# Altium integrated library NSC Discrete Diode.IntLib: 19 symbols
Pins are listed as number, name and electrical type; pins without a type are passive.

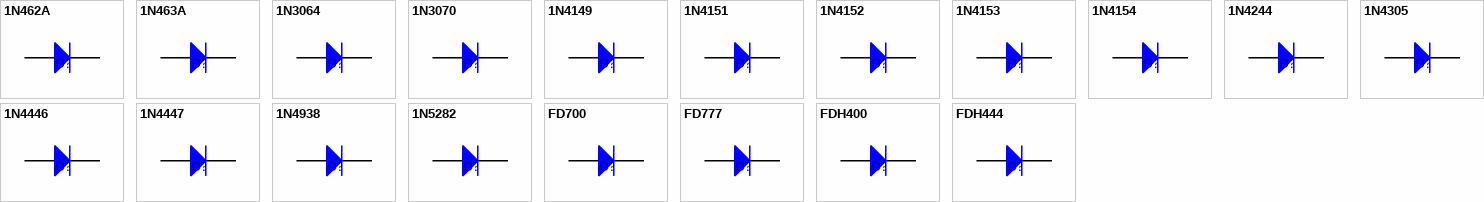
[diagram p0: symbols 1N462A to FDH444]

## 1N462A
designator D?
General Purpose Diode; PackageDocument: 1989; Published: 8-Jun-2000; LatestRevisionDate: 17-Jul-2002; LatestRevisionNote: Re-released for DXP Platform.; DatasheetDocument: 1989; PackageReference: DO-35; Publisher: Altium Limited; Code_JEDEC: DO-204-AH; ComponentLink1Description: Manufacturer Link; ComponentLink1URL: http://www.national.com/
footprint DO-35 (Diode, Axial; Body 4.6 x 1.9 mm (LxDia. max), Lead Dia. 0.53 mm (max))
simulation model 1N462A (DIODE)
signal-integrity model 1N462A
pins: 1 A, 2 K

## 1N463A
designator D?
General Purpose Diode; PackageDocument: 1989; Published: 8-Jun-2000; LatestRevisionDate: 17-Jul-2002; LatestRevisionNote: Re-released for DXP Platform.; DatasheetDocument: 1989; PackageReference: DO-35; Publisher: Altium Limited; Code_JEDEC: DO-204-AH; ComponentLink1Description: Manufacturer Link; ComponentLink1URL: http://www.national.com/
footprint DO-35 (Diode, Axial; Body 4.6 x 1.9 mm (LxDia. max), Lead Dia. 0.53 mm (max))
simulation model 1N463A (DIODE)
signal-integrity model 1N463A
pins: 1 A, 2 K

## 1N3064
designator D?
Computer Diode; PackageDocument: 1989; Published: 8-Jun-2000; LatestRevisionDate: 17-Jul-2002; LatestRevisionNote: Re-released for DXP Platform.; DatasheetDocument: 1989; PackageReference: DO-35; Publisher: Altium Limited; Code_JEDEC: DO-204-AH; ComponentLink1Description: Manufacturer Link; ComponentLink1URL: http://www.national.com/
footprint DO-35 (Diode, Axial; Body 4.6 x 1.9 mm (LxDia. max), Lead Dia. 0.53 mm (max))
simulation model 1N3064 (DIODE)
signal-integrity model 1N3064
pins: 1 A, 2 K

## 1N3070
designator D?
High Voltage Diode; PackageDocument: 1989; Published: 8-Jun-2000; LatestRevisionDate: 17-Jul-2002; LatestRevisionNote: Re-released for DXP Platform.; DatasheetDocument: 1989; PackageReference: DO-35; Publisher: Altium Limited; Code_JEDEC: DO-204-AH; ComponentLink1Description: Manufacturer Link; ComponentLink1URL: http://www.national.com/
footprint DO-35 (Diode, Axial; Body 4.6 x 1.9 mm (LxDia. max), Lead Dia. 0.53 mm (max))
simulation model 1N3070 (DIODE)
signal-integrity model 1N3070
pins: 1 A, 2 K

## 1N4149
designator D?
Computer Diode; PackageDocument: 1989; Published: 8-Jun-2000; LatestRevisionDate: 17-Jul-2002; LatestRevisionNote: Re-released for DXP Platform.; DatasheetDocument: 1989; PackageReference: DO-35; Publisher: Altium Limited; Code_JEDEC: DO-204-AH; ComponentLink1Description: Manufacturer Link; ComponentLink1URL: http://www.national.com/
footprint DO-35 (Diode, Axial; Body 4.6 x 1.9 mm (LxDia. max), Lead Dia. 0.53 mm (max))
simulation model 1N4149 (DIODE)
signal-integrity model 1N4149
pins: 1 A, 2 K

## 1N4151
designator D?
Computer Diode; PackageDocument: 1989; Published: 8-Jun-2000; LatestRevisionDate: 17-Jul-2002; LatestRevisionNote: Re-released for DXP Platform.; DatasheetDocument: 1989; PackageReference: DO-35; Publisher: Altium Limited; Code_JEDEC: DO-204-AH; ComponentLink1Description: Manufacturer Link; ComponentLink1URL: http://www.national.com/
footprint DO-35 (Diode, Axial; Body 4.6 x 1.9 mm (LxDia. max), Lead Dia. 0.53 mm (max))
simulation model 1N4151 (DIODE)
signal-integrity model 1N4151
pins: 1 A, 2 K

## 1N4152
designator D?
Computer Diode; PackageDocument: 1989; Published: 8-Jun-2000; LatestRevisionDate: 17-Jul-2002; LatestRevisionNote: Re-released for DXP Platform.; DatasheetDocument: 1989; PackageReference: DO-35; Publisher: Altium Limited; Code_JEDEC: DO-204-AH; ComponentLink1Description: Manufacturer Link; ComponentLink1URL: http://www.national.com/
footprint DO-35 (Diode, Axial; Body 4.6 x 1.9 mm (LxDia. max), Lead Dia. 0.53 mm (max))
simulation model 1N4152 (DIODE)
signal-integrity model 1N4152
pins: 1 A, 2 K

## 1N4153
designator D?
Computer Diode; PackageDocument: 1989; Published: 8-Jun-2000; LatestRevisionDate: 17-Jul-2002; LatestRevisionNote: Re-released for DXP Platform.; DatasheetDocument: 1989; PackageReference: DO-35; Publisher: Altium Limited; Code_JEDEC: DO-204-AH; ComponentLink1Description: Manufacturer Link; ComponentLink1URL: http://www.national.com/
footprint DO-35 (Diode, Axial; Body 4.6 x 1.9 mm (LxDia. max), Lead Dia. 0.53 mm (max))
simulation model 1N4153 (DIODE)
signal-integrity model 1N4153
pins: 1 A, 2 K

## 1N4154
designator D?
Computer Diode; PackageDocument: 1989; Published: 8-Jun-2000; LatestRevisionDate: 17-Jul-2002; LatestRevisionNote: Re-released for DXP Platform.; DatasheetDocument: 1989; PackageReference: DO-35; Publisher: Altium Limited; Code_JEDEC: DO-204-AH; ComponentLink1Description: Manufacturer Link; ComponentLink1URL: http://www.national.com/
footprint DO-35 (Diode, Axial; Body 4.6 x 1.9 mm (LxDia. max), Lead Dia. 0.53 mm (max))
simulation model 1N4154 (DIODE)
signal-integrity model 1N4154
pins: 1 A, 2 K

## 1N4244
designator D?
Computer Diode; PackageDocument: 1989; Published: 8-Jun-2000; LatestRevisionDate: 17-Jul-2002; LatestRevisionNote: Re-released for DXP Platform.; DatasheetDocument: 1989; PackageReference: DO-7; Publisher: Altium Limited; Code_JEDEC: DO-204-AA; ComponentLink1Description: Manufacturer Link; ComponentLink1URL: http://www.national.com/
footprint DO-7 (Diode, Axial; Body 7 x 2.7 mm (LxDia. max), Lead Dia. 0.53 mm (max))
simulation model 1N4244 (DIODE)
signal-integrity model 1N4244
pins: 1 A, 2 K

## 1N4305
designator D?
Computer Diode; PackageDocument: 1989; Published: 8-Jun-2000; LatestRevisionDate: 17-Jul-2002; LatestRevisionNote: Re-released for DXP Platform.; DatasheetDocument: 1989; PackageReference: DO-35; Publisher: Altium Limited; Code_JEDEC: DO-204-AH; ComponentLink1Description: Manufacturer Link; ComponentLink1URL: http://www.national.com/
footprint DO-35 (Diode, Axial; Body 4.6 x 1.9 mm (LxDia. max), Lead Dia. 0.53 mm (max))
simulation model 1N4305 (DIODE)
signal-integrity model 1N4305
pins: 1 A, 2 K

## 1N4446
designator D?
Computer Diode; PackageDocument: 1989; Published: 8-Jun-2000; LatestRevisionDate: 17-Jul-2002; LatestRevisionNote: Re-released for DXP Platform.; DatasheetDocument: 1989; PackageReference: DO-35; Publisher: Altium Limited; Code_JEDEC: DO-204-AH; ComponentLink1Description: Manufacturer Link; ComponentLink1URL: http://www.national.com/
footprint DO-35 (Diode, Axial; Body 4.6 x 1.9 mm (LxDia. max), Lead Dia. 0.53 mm (max))
simulation model 1N4446 (DIODE)
signal-integrity model 1N4446
pins: 1 A, 2 K

## 1N4447
designator D?
Computer Diode; PackageDocument: 1989; Published: 8-Jun-2000; LatestRevisionDate: 17-Jul-2002; LatestRevisionNote: Re-released for DXP Platform.; DatasheetDocument: 1989; PackageReference: DO-35; Publisher: Altium Limited; Code_JEDEC: DO-204-AH; ComponentLink1Description: Manufacturer Link; ComponentLink1URL: http://www.national.com/
footprint DO-35 (Diode, Axial; Body 4.6 x 1.9 mm (LxDia. max), Lead Dia. 0.53 mm (max))
simulation model 1N4447 (DIODE)
signal-integrity model 1N4447
pins: 1 A, 2 K

## 1N4938
designator D?
High Voltage Diode; PackageDocument: 1989; Published: 8-Jun-2000; LatestRevisionDate: 17-Jul-2002; LatestRevisionNote: Re-released for DXP Platform.; DatasheetDocument: 1989; PackageReference: DO-35; Publisher: Altium Limited; Code_JEDEC: DO-204-AH; ComponentLink1Description: Manufacturer Link; ComponentLink1URL: http://www.national.com/
footprint DO-35 (Diode, Axial; Body 4.6 x 1.9 mm (LxDia. max), Lead Dia. 0.53 mm (max))
simulation model 1N4938 (DIODE)
signal-integrity model 1N4938
pins: 1 A, 2 K

## 1N5282
designator D?
Computer Diode; PackageDocument: 1989; Published: 8-Jun-2000; LatestRevisionDate: 17-Jul-2002; LatestRevisionNote: Re-released for DXP Platform.; DatasheetDocument: 1989; PackageReference: DO-35; Publisher: Altium Limited; Code_JEDEC: DO-204-AH; ComponentLink1Description: Manufacturer Link; ComponentLink1URL: http://www.national.com/
footprint DO-35 (Diode, Axial; Body 4.6 x 1.9 mm (LxDia. max), Lead Dia. 0.53 mm (max))
simulation model 1N5282 (DIODE)
signal-integrity model 1N5282
pins: 1 A, 2 K

## FD700
designator D?
Computer Diode; PackageDocument: 1989; Published: 8-Jun-2000; LatestRevisionDate: 17-Jul-2002; LatestRevisionNote: Re-released for DXP Platform.; DatasheetDocument: 1989; PackageReference: DO-7; Publisher: Altium Limited; Code_JEDEC: DO-204-AA; ComponentLink1Description: Manufacturer Link; ComponentLink1URL: http://www.national.com/
footprint DO-7 (Diode, Axial; Body 7 x 2.7 mm (LxDia. max), Lead Dia. 0.53 mm (max))
simulation model FD700 (DIODE)
signal-integrity model FD700
pins: 1 A, 2 K

## FD777
designator D?
Computer Diode; PackageDocument: 1989; Published: 8-Jun-2000; LatestRevisionDate: 17-Jul-2002; LatestRevisionNote: Re-released for DXP Platform.; DatasheetDocument: 1989; PackageReference: DO-7; Publisher: Altium Limited; Code_JEDEC: DO-204-AA; ComponentLink1Description: Manufacturer Link; ComponentLink1URL: http://www.national.com/
footprint DO-7 (Diode, Axial; Body 7 x 2.7 mm (LxDia. max), Lead Dia. 0.53 mm (max))
simulation model FD777 (DIODE)
signal-integrity model FD777
pins: 1 A, 2 K

## FDH400
designator D?
High Voltage Diode; PackageDocument: 1989; Published: 8-Jun-2000; LatestRevisionDate: 17-Jul-2002; LatestRevisionNote: Re-released for DXP Platform.; DatasheetDocument: 1989; PackageReference: DO-35; Publisher: Altium Limited; Code_JEDEC: DO-204-AH; ComponentLink1Description: Manufacturer Link; ComponentLink1URL: http://www.national.com/; ComponentLink2Description: Datasheet; ComponentLink2URL: http://www.fairchildsemi.com/ds/FD/FDH400.pdf
footprint DO-35 (Diode, Axial; Body 4.6 x 1.9 mm (LxDia. max), Lead Dia. 0.53 mm (max))
simulation model FDH400 (DIODE)
signal-integrity model FDH400
pins: 1 A, 2 K

## FDH444
designator D?
High Voltage Diode; PackageDocument: 1989; Published: 8-Jun-2000; LatestRevisionDate: 17-Jul-2002; LatestRevisionNote: Re-released for DXP Platform.; DatasheetDocument: 1989; PackageReference: DO-35; Publisher: Altium Limited; Code_JEDEC: DO-204-AH; ComponentLink1Description: Manufacturer Link; ComponentLink1URL: http://www.national.com/
footprint DO-35 (Diode, Axial; Body 4.6 x 1.9 mm (LxDia. max), Lead Dia. 0.53 mm (max))
simulation model FDH444 (DIODE)
signal-integrity model FDH444
pins: 1 A, 2 K